# EAGLE library part DSPIC30F6014 (library microchip-dspic)
dsPIC General DSP with CAN and I2S ports
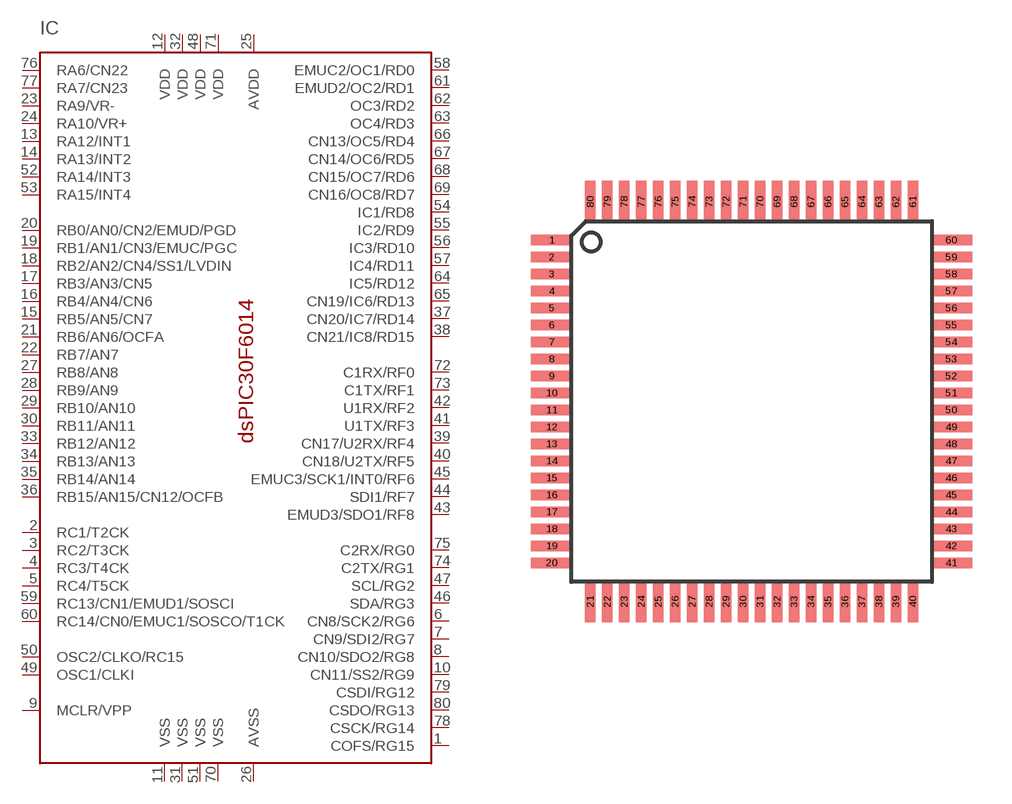
[diagram p3: symbol with the pads of TQFP80-917; footprint TQFP80-917]

Designator prefix IC

## DSPIC30F6014/PF  [TQFP80-917]
1  COFS/RG15
2  RC1/T2CK
3  RC2/T3CK
4  RC3/T4CK
5  RC4/T5CK
6  CN8/SCK2/RG6
7  CN9/SDI2/RG7
8  CN10/SDO2/RG8
9  MCLR/VPP  in
10  CN11/SS2/RG9
11  VSS  pwr
12  VDD  pwr
13  RA12/INT1
14  RA13/INT2
15  RB5/AN5/CN7
16  RB4/AN4/CN6
17  RB3/AN3/CN5
18  RB2/AN2/CN4/SS1/LVDIN
19  RB1/AN1/CN3/EMUC/PGC
20  RB0/AN0/CN2/EMUD/PGD
21  RB6/AN6/OCFA
22  RB7/AN7
23  RA9/VR-
24  RA10/VR+
25  AVDD  pwr
26  AVSS  pwr
27  RB8/AN8
28  RB9/AN9
29  RB10/AN10
30  RB11/AN11
31  VSS  pwr
32  VDD  pwr
33  RB12/AN12
34  RB13/AN13
35  RB14/AN14
36  RB15/AN15/CN12/OCFB
37  CN20/IC7/RD14
38  CN21/IC8/RD15
39  CN17/U2RX/RF4
40  CN18/U2TX/RF5
41  U1TX/RF3
42  U1RX/RF2
43  EMUD3/SDO1/RF8
44  SDI1/RF7
45  EMUC3/SCK1/INT0/RF6
46  SDA/RG3
47  SCL/RG2
48  VDD  pwr
49  OSC1/CLKI  in
50  OSC2/CLKO/RC15
51  VSS  pwr
52  RA14/INT3
53  RA15/INT4
54  IC1/RD8
55  IC2/RD9
56  IC3/RD10
57  IC4/RD11
58  EMUC2/OC1/RD0
59  RC13/CN1/EMUD1/SOSCI
60  RC14/CN0/EMUC1/SOSCO/T1CK
61  EMUD2/OC2/RD1
62  OC3/RD2
63  OC4/RD3
64  IC5/RD12
65  CN19/IC6/RD13
66  CN13/OC5/RD4
67  CN14/OC6/RD5
68  CN15/OC7/RD6
69  CN16/OC8/RD7
70  VSS  pwr
71  VDD  pwr
72  C1RX/RF0
73  C1TX/RF1
74  C2TX/RG1
75  C2RX/RG0
76  RA6/CN22
77  RA7/CN23
78  CSCK/RG14
79  CSDI/RG12
80  CSDO/RG13

## Footprint TQFP80-917 (pad centres in mm)
Thin Quad Flat Pack
smd 1.6 x 0.4: 1 -7.65,6.175; 2 -7.65,5.525; 3 -7.65,4.875; 4 -7.65,4.225; 5 -7.65,3.575; 6 -7.65,2.925; 7 -7.65,2.275; 8 -7.65,1.625; 9 -7.65,0.975; 10 -7.65,0.325; 11 -7.65,-0.325; 12 -7.65,-0.975; 13 -7.65,-1.625; 14 -7.65,-2.275; 15 -7.65,-2.925; 16 -7.65,-3.575; 17 -7.65,-4.225; 18 -7.65,-4.875; 19 -7.65,-5.525; 20 -7.65,-6.175; 41 7.65,-6.175; 42 7.65,-5.525; 43 7.65,-4.875; 44 7.65,-4.225; 45 7.65,-3.575; 46 7.65,-2.925; 47 7.65,-2.275; 48 7.65,-1.625; 49 7.65,-0.975; 50 7.65,-0.325; 51 7.65,0.325; 52 7.65,0.975; 53 7.65,1.625; 54 7.65,2.275; 55 7.65,2.925; 56 7.65,3.575; 57 7.65,4.225; 58 7.65,4.875; 59 7.65,5.525; 60 7.65,6.175
smd 0.4 x 1.6: 21 -6.175,-7.65; 22 -5.525,-7.65; 23 -4.875,-7.65; 24 -4.225,-7.65; 25 -3.575,-7.65; 26 -2.925,-7.65; 27 -2.275,-7.65; 28 -1.625,-7.65; 29 -0.975,-7.65; 30 -0.325,-7.65; 31 0.325,-7.65; 32 0.975,-7.65; 33 1.625,-7.65; 34 2.275,-7.65; 35 2.925,-7.65; 36 3.575,-7.65; 37 4.225,-7.65; 38 4.875,-7.65; 39 5.525,-7.65; 40 6.175,-7.65; 61 6.175,7.65; 62 5.525,7.65; 63 4.875,7.65; 64 4.225,7.65; 65 3.575,7.65; 66 2.925,7.65; 67 2.275,7.65; 68 1.625,7.65; 69 0.975,7.65; 70 0.325,7.65; 71 -0.325,7.65; 72 -0.975,7.65; 73 -1.625,7.65; 74 -2.275,7.65; 75 -2.925,7.65; 76 -3.575,7.65; 77 -4.225,7.65; 78 -4.875,7.65; 79 -5.525,7.65; 80 -6.175,7.65